# EAGLE library part NARWAN-8POL (library Stiftleiste_Narvan)
Name des Bauteiles: -->Stiftleiste 2 x 4 Pol. Daten:Narwan: S1.60-i-25-1-20--14,5-4,5 , Sandwich, RM: 2,54 Artikelnummer:#201083 (muss zurecht geschnitten werden) Datenblatt:www.alldatasheet.com __________________________________________ generated by Eagle Description Tool am : 07.02.2014 08:34:42 erstellt von: Hm
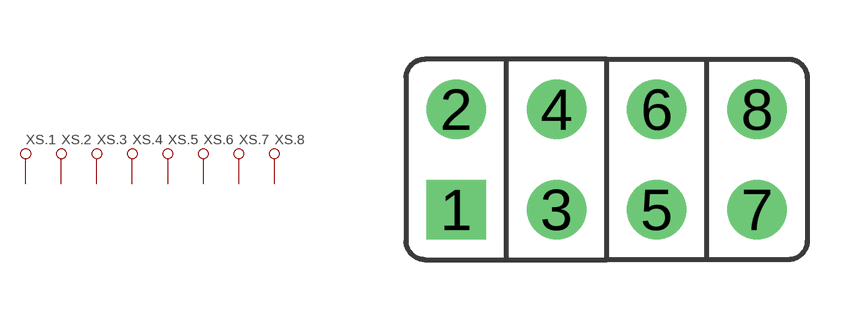
[diagram p1: symbol with the pads of S1.60-I-25-1-8--14,5-4,5; footprint S1.60-I-25-1-8--14,5-4,5]

Designator prefix XS; gates .1=1 .2=1 .3=1 .4=1 .5=1 .6=1 .7=1 .8=1

## NARWAN-8POLTHT  [S1.60-I-25-1-8--14,5-4,5]
1  .1:.1
2  .2:.1
3  .3:.1
4  .4:.1
5  .5:.1
6  .6:.1
7  .7:.1
8  .8:.1

## Footprint S1.60-I-25-1-8--14,5-4,5 (pad centres in mm)
drill 1 square: 1 -5.08,-1.27
drill 1: 2 -5.08,1.27; 3 -2.54,-1.27; 4 -2.54,1.27; 5 0,-1.27; 6 0,1.27; 7 2.54,-1.27; 8 2.54,1.27